# Altium schematic symbol library CMP-012-00001-1.Schlib: 1 symbol
Pins are listed as number, name and electrical type; pins without a type are passive.

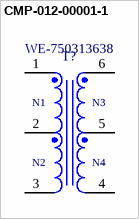
[diagram p0: symbol CMP-012-00001-1]

## CMP-012-00001-1
designator T?, comment WE-750313638
TRANSFORMER, AEC-Q200, 1.3: 1, 340UH; Inductance: 340µH; Product Range: MID-PPTI Series; SVHC: No SVHC (15-Jan-2019)nnn; Turns Ratio: 1.3:1; Power Rating: 1.2W; Secondary Winding(s): Dual; Operating Frequency: 250 kHz to 550 kHz; Secondary Current: 350mA; Weight: 0.028219oz; Termination: SMD/SMT; Height: 7.62mm; Series: WE-PP, MID-PPTI; Value: 340uH; Length: 9.14mm; Max Operating Temperature: 125°C; Case/Package: SMD/SMT; Mounting Technology: Surface Mount; Width: 12.7mm; Package Quantity: 500; RoHS Compliant: Yes; Primary Winding(s): Dual; Min Operating Temperature: -40°C; Packaging: Cut Tape
footprint WE-PPTI_1209_L12.7W9.14H7.62 (Push-Pull Transformer, SMT, body 12.70 x 9.14 mm)
pins: 1, 2, 3, 4, 5, 6
text: N1; N3; N2; N4